# EAGLE library part UVC_MODULE (library Zenith_Breakouts)
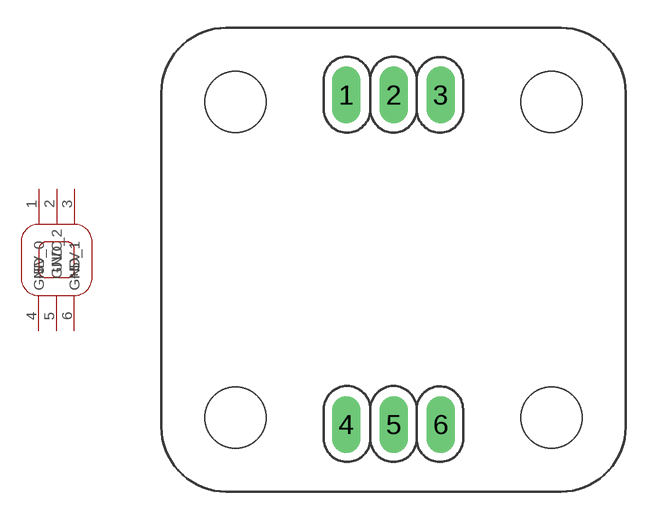
[diagram p0: symbol with the pads of UVC_MODULE; footprint UVC_MODULE]

Designator prefix -

## UVC_MODULE  [UVC_MODULE]
1  GND_0
2  UVC
3  GND_1
4  -5V
5  GND_2
6  +5V

## Footprint UVC_MODULE (pad centres in mm)
drill 1.016 long: 1 9.96,-3.62; 2 12.5,-3.62; 3 15.04,-3.62; 4 9.96,-21.38; 5 12.5,-21.38; 6 15.04,-21.38